# Altium footprint library Icarus PCB_Lib.PcbLib: 23 footprints (part 2 of 2)
Each footprint in its own frame and in the unit in brackets; x right, y up, seen from the top. Pads: shape width x height; smd on the part's side, far side on the other; paste and mask are expansions set on the pad; w line width, h text height; cw(c..) or ccw(c..) is an arc to the next point about the centre after c.
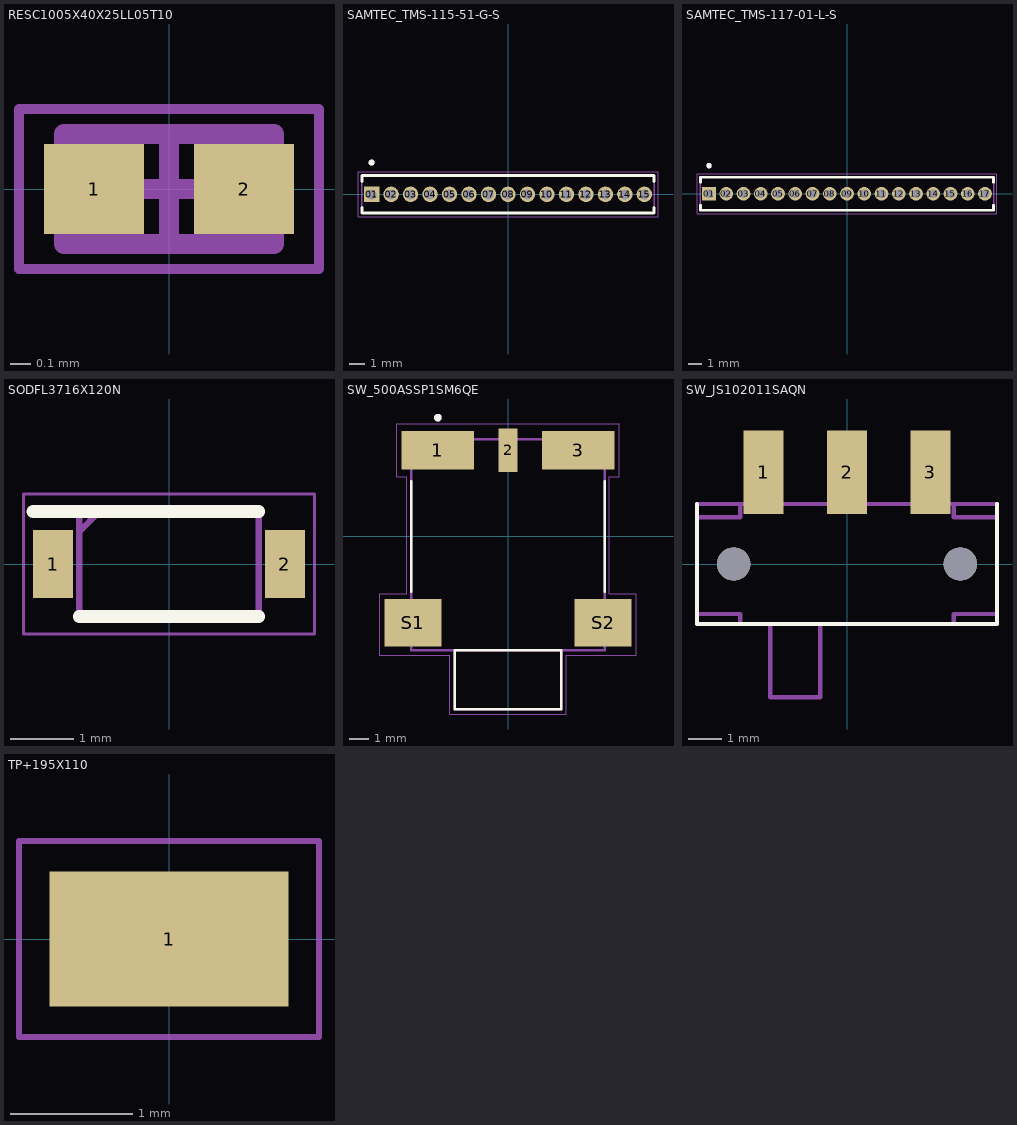
[diagram p1: the footprints below, top view; thin cyan lines are the x and y axes]

## RESC1005X40X25LL05T10 [mm] "Chip Resistor, 2-Leads, Body 1.00x0.50mm, IPC High Density"
height 0.4
pads (2):
  rect 0.5x0.45 smd: 1(-0.375,0) 2(0.375,0)
Mechanical 13:
  lines w0.1: -0.525,-0.275 -0.525,0.275 0.525,0.275 0.525,-0.275 -0.525,-0.275
Mechanical 15:
  lines w0.05: -0.75,-0.4 -0.75,0.4 0.75,0.4 0.75,-0.4 -0.75,-0.4
  lines w0.1: -0.275,0 0.275,0 ; 0,-0.275 0,0.275
3D body: height 0.4, standoff 0, extent -0.275,-0.275 0.275,0.275
3D body: height 0.4, standoff 0, extent -0.525,-0.275 -0.275,0.275
3D body: height 0.4, standoff 0, extent 0.275,-0.275 0.525,0.275

## SAMTEC_TMS-115-51-G-S [mm]
pads (15):
  rect 1.01x1.01 hole 0.66: 01(-8.89,0)
  round 1.01 hole 0.66: 02(-7.62,0) 03(-6.35,0) 04(-5.08,0) 05(-3.81,0) 06(-2.54,0) 07(-1.27,0) 08(0,0) 09(1.27,0) 10(2.54,0) 11(3.81,0) 12(5.08,0) 13(6.35,0) 14(7.62,0) 15(8.89,0)
Top Overlay:
  circle w0.2: c-8.89,2.069 r0.1
  lines w0.2: -9.525,-0.855 -9.525,-1.219 9.525,-1.219 9.525,-0.855 ; -9.525,0.855 -9.525,1.219 9.525,1.219 9.525,0.855
Mechanical 13:
  circle w0.2: c-8.89,2.069 r0.1
  lines w0.1: -9.525,-1.219 -9.525,1.219 9.525,1.219 9.525,-1.219 -9.525,-1.219
Mechanical 15:
  lines w0.05: -9.775,-1.469 9.775,-1.469 9.775,1.469 -9.775,1.469 -9.775,-1.469

## SAMTEC_TMS-117-01-L-S [mm]
pads (17):
  rect 1.01x1.01 hole 0.66: 01(-10.16,0)
  round 1.01 hole 0.66: 02(-8.89,0) 03(-7.62,0) 04(-6.35,0) 05(-5.08,0) 06(-3.81,0) 07(-2.54,0) 08(-1.27,0) 09(0,0) 10(1.27,0) 11(2.54,0) 12(3.81,0) 13(5.08,0) 14(6.35,0) 15(7.62,0) 16(8.89,0) 17(10.16,0)
Top Overlay:
  circle w0.2: c-10.16,2.069 r0.1
  lines w0.2: -10.795,-0.855 -10.795,-1.219 10.795,-1.219 10.795,-0.855 ; -10.795,0.855 -10.795,1.219 10.795,1.219 10.795,0.855
Mechanical 13:
  circle w0.2: c-10.16,2.069 r0.1
  lines w0.1: -10.795,-1.219 10.795,-1.219 10.795,1.219 -10.795,1.219 -10.795,-1.219
Mechanical 15:
  lines w0.05: -11.045,-1.469 -11.045,1.469 11.045,1.469 11.045,-1.469 -11.045,-1.469

## SODFL3716X120N [mm]
pads (2):
  rect 0.63x1.07 smd: 1(-1.825,0) 2(1.825,0)
Top Overlay:
  lines w0.2: -2.14,0.825 1.412,0.825 ; -1.412,-0.825 1.412,-0.825
Mechanical 15:
  lines w0.1: -1.412,0.51 -1.098,0.825 ; -1.412,-0.825 -1.412,0.825 1.412,0.825 1.412,-0.825 -1.412,-0.825
Bottom Assembly:
  lines w0.05: -2.29,-1.1 -2.29,1.1 2.29,1.1 2.29,-1.1 -2.29,-1.1

## SW_500ASSP1SM6QE [mm]
height 6.08
pads (5):
  rect 3.81x2.03 smd: 1(-3.685,4.535) 3(3.685,4.535)
  rect 1.02x2.29 smd: 2(0,4.535)
  rect 3x2.5 smd: S1(-5,-4.535) S2(5,-4.535)
Top Overlay:
  circle w0.2: c-3.685,6.25 r0.1
  lines w0.127: -5.08,-2.899 -5.08,2.899 ; 5.08,-2.899 5.08,2.899 ; -2.8,-9.085 2.8,-9.085 2.8,-5.985 -2.8,-5.985 -2.8,-9.085
Mechanical 13:
  circle w0.2: c-3.685,6.25 r0.1
  lines w0.127: -2.8,-5.985 -2.8,-9.085 2.8,-9.085 2.8,-5.985 ; -2.8,-5.985 2.8,-5.985 ; -2.8,-5.985 -5.08,-5.985 -5.08,5.115 5.08,5.115 5.08,-5.985 2.8,-5.985
Mechanical 15:
  lines w0.05: -6.75,-6.235 -6.75,-3 -5.33,-3 -5.33,3.14 -5.84,3.14 -5.84,5.93 5.84,5.93 5.84,3.14 5.33,3.14 5.33,-3 6.75,-3 6.75,-6.235 3.05,-6.235 3.05,-9.335 -3.05,-9.335 -3.05,-6.235 -6.75,-6.235
3D body "step_temp.STEP": height 6.08, standoff 0, extent -6.25,-9.085 6.25,5.115

## SW_JS102011SAQN [mm]
pads (5):
  rect 1.2x2.5 smd: 1(-2.5,2.75) 2(0,2.75) 3(2.5,2.75)
  round 1 hole 1 unplated: ""(-3.4,0) ""(3.4,0)
Top Overlay:
  lines w0.127: -4.5,1.8 -4.5,-1.8 4.5,-1.8 4.5,1.8
Mechanical 13:
  region: 2.8,1.803 2.204,1.803 2.204,3.7 2.8,3.7
  region: 0.3,1.8 -0.3,1.8 -0.3,3.7 0.3,3.7
  region: -2.2,1.801 -2.801,1.801 -2.801,3.7 -2.2,3.7
  region: -2.2,1.801 -2.801,1.801 -2.801,3.7 -2.2,3.7
  lines w0.127: -4.5,-1.5 -3.2,-1.5 -3.2,-1.8 ; -4.5,1.4 -3.2,1.4 -3.2,1.7 ; -4.5,1.8 4.5,1.8 ; -2.3,-1.8 -2.3,-4 -0.8,-4 -0.8,-1.8 ; 3.2,-1.8 3.2,-1.5 4.5,-1.5 ; 3.2,1.7 3.2,1.4 4.5,1.4
3D body "step_temp.STEP": height 3.22, standoff -1.08, extent -4.5,-3.75 4.5,3.75

## TP+195X110 [mm]
pads (1):
  rect 1.95x1.1 smd: 1(0,0)
Mechanical 13:
  lines w0.127: -0.8,-0.4 -0.8,0.4 0.8,0.4 0.8,-0.4 -0.8,-0.4
Mechanical 15:
  lines w0.05: -1.225,-0.8 -1.225,0.8 1.225,0.8 1.225,-0.8 -1.225,-0.8